# EAGLE library part 30PAD-BREADBOARD (library 29PAD-ta)
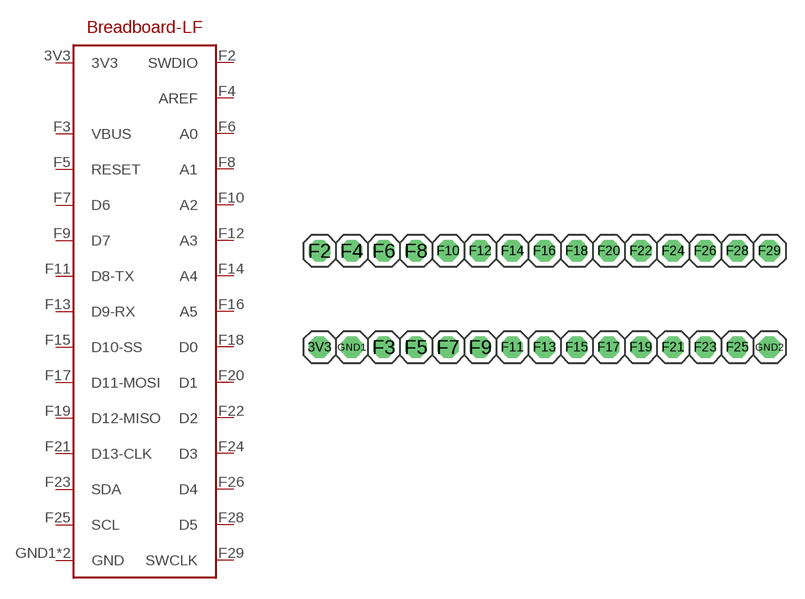
[diagram p3: symbol with the pads of 30PAD-BREADBOARD; footprint 30PAD-BREADBOARD]

Designator prefix -

## 30PAD-BREADBOARD  [30PAD-BREADBOARD]
3V3  3V3
F2  F02
F3  F03
F4  F04
F5  F05
F6  F06
F7  F07
F8  F08
F9  F09
F10  F10
F11  F11
F12  F12
F13  F13
F14  F14
F15  F15
F16  F16
F17  F17
F18  F18
F19  F19
F20  F20
F21  F21
F22  F22
F23  F23
F24  F24
F25  F25
F26  F26
F28  F28
F29  F29
GND1  GND
GND2  GND

## Footprint 30PAD-BREADBOARD (pad centres in mm)
drill 1.016 pad 1.676 octagon: 3V3 -17.78,-3.81; F2 -17.78,3.81; F3 -12.7,-3.81; F4 -15.24,3.81; F5 -10.16,-3.81; F6 -12.7,3.81; F7 -7.62,-3.81; F8 -10.16,3.81; F9 -5.08,-3.81; F10 -7.62,3.81; F11 -2.54,-3.81; F12 -5.08,3.81; F13 0,-3.81; F14 -2.54,3.81; F15 2.54,-3.81; F16 0,3.81; F17 5.08,-3.81; F18 2.54,3.81; F19 7.62,-3.81; F20 5.08,3.81; F21 10.16,-3.81; F22 7.62,3.81; F23 12.7,-3.81; F24 10.16,3.81; F25 15.24,-3.81; F26 12.7,3.81; F28 15.24,3.81; F29 17.78,3.81; GND1 -15.24,-3.81; GND2 17.78,-3.81